# EAGLE library part AT24C128 (library EEProm)
10TU - TSSOP 10SU - JEDEC SOIC -2.7 - 2,7V Version
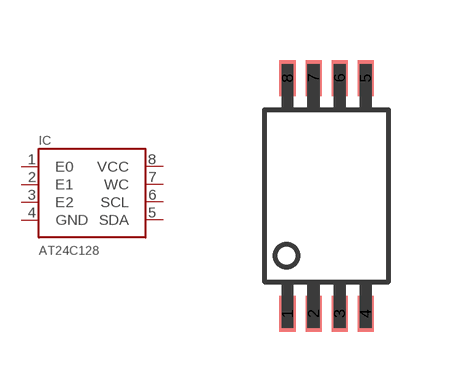
[diagram p0: symbol with the pads of TSSOP8; footprint TSSOP8]

Designator prefix IC

## AT24C12810-TU  [TSSOP8]
1  E0
2  E1
3  E2
4  GND
5  SDA
6  SCL
7  WC
8  VCC

## Footprint TSSOP8 (pad centres in mm)
smd 0.4 x 0.9: 1 -0.975,-2.95; 2 -0.325,-2.95; 3 0.325,-2.95; 4 0.975,-2.95; 5 0.975,2.95; 6 0.325,2.95; 7 -0.325,2.95; 8 -0.975,2.95